# Altium footprint library 10cl010eye144.PcbLib: 3 footprints
Each footprint in its own frame and in the unit in brackets; x right, y up, seen from the top. Pads: shape width x height; smd on the part's side, far side on the other; paste and mask are expansions set on the pad; w line width, h text height; cw(c..) or ccw(c..) is an arc to the next point about the centre after c.
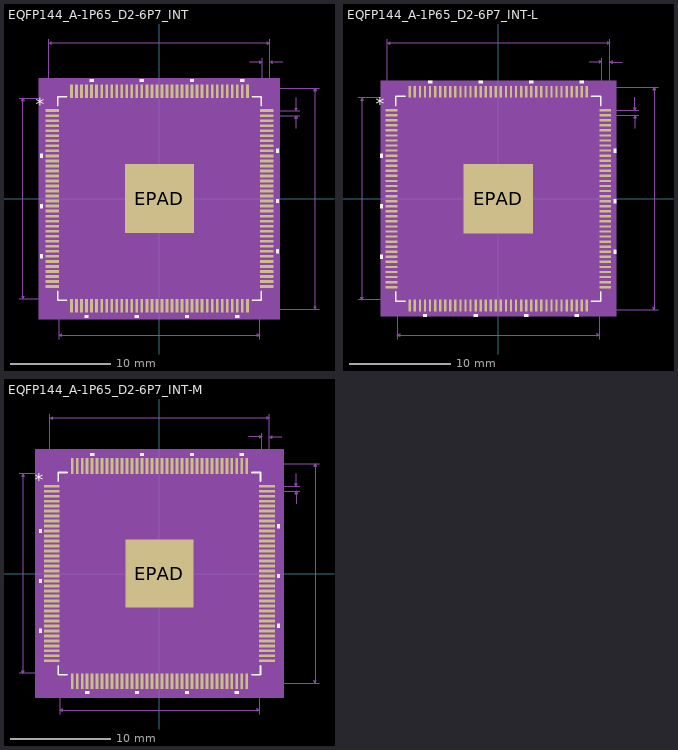
[diagram p0: the footprints below, top view; thin cyan lines are the x and y axes]

## EQFP144_A-1P65_D2-6P7_INT [mil]
pads (145):
  rect 53.5x11 smd paste+0 mask+0: 1(-420.25,344.49) 2(-420.25,324.8) 3(-420.25,305.12) 4(-420.25,285.43) 5(-420.25,265.75) 6(-420.25,246.06) 7(-420.25,226.38) 8(-420.25,206.69) 9(-420.25,187.01) 10(-420.25,167.32) 11(-420.25,147.64) 12(-420.25,127.95) 13(-420.25,108.27) 14(-420.25,88.58) 15(-420.25,68.9) 16(-420.25,49.21) 17(-420.25,29.53) 18(-420.25,9.84) 19(-420.25,-9.84) 20(-420.25,-29.53) 21(-420.25,-49.21) 22(-420.25,-68.9) 23(-420.25,-88.58) 24(-420.25,-108.27) 25(-420.25,-127.95) 26(-420.25,-147.64) 27(-420.25,-167.32) 28(-420.25,-187.01) 29(-420.25,-206.69) 30(-420.25,-226.38) 31(-420.25,-246.06) 32(-420.25,-265.75) 33(-420.25,-285.43) 34(-420.25,-305.12) 35(-420.25,-324.8) 36(-420.25,-344.49) 73(420.25,-344.49) 74(420.25,-324.8) 75(420.25,-305.12) 76(420.25,-285.43) 77(420.25,-265.75) 78(420.25,-246.06) 79(420.25,-226.38) 80(420.25,-206.69) 81(420.25,-187.01) 82(420.25,-167.32) 83(420.25,-147.64) 84(420.25,-127.95) 85(420.25,-108.27) 86(420.25,-88.58) 87(420.25,-68.9) 88(420.25,-49.21) 89(420.25,-29.53) 90(420.25,-9.84) 91(420.25,9.84) 92(420.25,29.53) 93(420.25,49.21) 94(420.25,68.9) 95(420.25,88.58) 96(420.25,108.27) 97(420.25,127.95) 98(420.25,147.64) 99(420.25,167.32) 100(420.25,187.01) 101(420.25,206.69) 102(420.25,226.38) 103(420.25,246.06) 104(420.25,265.75) 105(420.25,285.43) 106(420.25,305.12) 107(420.25,324.8) 108(420.25,344.49)
  rect 11x53.5 smd paste+0 mask+0: 37(-344.49,-420.25) 38(-324.8,-420.25) 39(-305.12,-420.25) 40(-285.43,-420.25) 41(-265.75,-420.25) 42(-246.06,-420.25) 43(-226.38,-420.25) 44(-206.69,-420.25) 45(-187.01,-420.25) 46(-167.32,-420.25) 47(-147.64,-420.25) 48(-127.95,-420.25) 49(-108.27,-420.25) 50(-88.58,-420.25) 51(-68.9,-420.25) 52(-49.21,-420.25) 53(-29.53,-420.25) 54(-9.84,-420.25) 55(9.84,-420.25) 56(29.53,-420.25) 57(49.21,-420.25) 58(68.9,-420.25) 59(88.58,-420.25) 60(108.27,-420.25) 61(127.95,-420.25) 62(147.64,-420.25) 63(167.32,-420.25) 64(187.01,-420.25) 65(206.69,-420.25) 66(226.38,-420.25) 67(246.06,-420.25) 68(265.75,-420.25) 69(285.43,-420.25) 70(305.12,-420.25) 71(324.8,-420.25) 72(344.49,-420.25) 109(344.49,420.25) 110(324.8,420.25) 111(305.12,420.25) 112(285.43,420.25) 113(265.75,420.25) 114(246.06,420.25) 115(226.38,420.25) 116(206.69,420.25) 117(187.01,420.25) 118(167.32,420.25) 119(147.64,420.25) 120(127.95,420.25) 121(108.27,420.25) 122(88.58,420.25) 123(68.9,420.25) 124(49.21,420.25) 125(29.53,420.25) 126(9.84,420.25) 127(-9.84,420.25) 128(-29.53,420.25) 129(-49.21,420.25) 130(-68.9,420.25) 131(-88.58,420.25) 132(-108.27,420.25) 133(-127.95,420.25) 134(-147.64,420.25) 135(-167.32,420.25) 136(-187.01,420.25) 137(-206.69,420.25) 138(-226.38,420.25) 139(-246.06,420.25) 140(-265.75,420.25) 141(-285.43,420.25) 142(-305.12,420.25) 143(-324.8,420.25) 144(-344.49,420.25)
  rect 270x270 smd paste-134.5 mask+0: EPAD(0,0)
Top Overlay:
  region: -258.25,457 -273.25,457 -273.25,467 -258.25,467
  region: -61.4,457 -76.4,457 -76.4,467 -61.4,467
  region: 135.45,457 120.45,457 120.45,467 135.45,467
  region: 332.3,457 317.3,457 317.3,467 332.3,467
  region: 457,194.51 467,194.51 467,179.51 457,179.51
  region: 457,-2.34 467,-2.34 467,-17.34 457,-17.34
  region: 457,-199.19 467,-199.19 467,-214.19 457,-214.19
  region: 312.62,-457 297.62,-457 297.62,-467 312.62,-467
  region: 115.77,-457 100.77,-457 100.77,-467 115.77,-467
  region: -81.08,-457 -96.08,-457 -96.08,-467 -81.08,-467
  region: -277.93,-457 -292.93,-457 -292.93,-467 -277.93,-467
  region: -457,-218.88 -467,-218.88 -467,-233.88 -457,-233.88
  region: -457,-22.03 -467,-22.03 -467,-37.03 -457,-37.03
  region: -457,174.82 -467,174.82 -467,159.82 -457,159.82
  lines w6: -398.5,-363.09 -398.5,-398.5 -363.09,-398.5 ; -398.5,363.09 -398.5,398.5 -363.09,398.5 ; 363.09,-398.5 398.5,-398.5 398.5,-363.09 ; 363.09,398.5 398.5,398.5 398.5,363.09
  text "*" at -484.5,344.33 h50
Top Paste:
  region: 131.06,-84.94 84.94,-84.94 84.94,-131.06 131.06,-131.06
  region: 131.06,-30.94 84.94,-30.94 84.94,-77.06 131.06,-77.06
  region: 131.06,23.06 84.94,23.06 84.94,-23.06 131.06,-23.06
  region: 131.06,77.06 84.94,77.06 84.94,30.94 131.06,30.94
  region: 131.06,131.06 84.94,131.06 84.94,84.94 131.06,84.94
  region: 77.06,-84.94 30.94,-84.94 30.94,-131.06 77.06,-131.06
  region: 77.06,-30.94 30.94,-30.94 30.94,-77.06 77.06,-77.06
  region: 77.06,23.06 30.94,23.06 30.94,-23.06 77.06,-23.06
  region: 77.06,77.06 30.94,77.06 30.94,30.94 77.06,30.94
  region: 77.06,131.06 30.94,131.06 30.94,84.94 77.06,84.94
  region: 23.06,-84.94 -23.06,-84.94 -23.06,-131.06 23.06,-131.06
  region: 23.06,-30.94 -23.06,-30.94 -23.06,-77.06 23.06,-77.06
  region: 23.06,23.06 -23.06,23.06 -23.06,-23.06 23.06,-23.06
  region: 23.06,77.06 -23.06,77.06 -23.06,30.94 23.06,30.94
  region: 23.06,131.06 -23.06,131.06 -23.06,84.94 23.06,84.94
  region: -30.94,-84.94 -77.06,-84.94 -77.06,-131.06 -30.94,-131.06
  region: -30.94,-30.94 -77.06,-30.94 -77.06,-77.06 -30.94,-77.06
  region: -30.94,23.06 -77.06,23.06 -77.06,-23.06 -30.94,-23.06
  region: -30.94,77.06 -77.06,77.06 -77.06,30.94 -30.94,30.94
  region: -30.94,131.06 -77.06,131.06 -77.06,84.94 -30.94,84.94
  region: -84.94,-84.94 -131.06,-84.94 -131.06,-131.06 -84.94,-131.06
  region: -84.94,-30.94 -131.06,-30.94 -131.06,-77.06 -84.94,-77.06
  region: -84.94,23.06 -131.06,23.06 -131.06,-23.06 -84.94,-23.06
  region: -84.94,77.06 -131.06,77.06 -131.06,30.94 -84.94,30.94
  region: -84.94,131.06 -131.06,131.06 -131.06,84.94 -84.94,84.94
Mechanical 5:
  region: 472,-472 -472,-472 -472,472 472,472
Mechanical 7:
  lines w1: -550.25,-393.5 -344.49,-393.5 ; -550.25,393.5 -344.49,393.5 ; -433,344.49 -433,625.25 ; -393.5,-550.25 -393.5,-344.49 ; 344.49,-433 625.25,-433 ; 344.49,433 625.25,433 ; 353,535.25 403,535.25 ; 393.5,-550.25 393.5,-344.49 ; 403,344.49 403,550.25 ; 420.25,324.8 550.25,324.8 ; 420.25,344.49 550.25,344.49 ; 433,550.25 433,344.49 433,625.25 ; 483,535.25 433,535.25 ; 535.25,274.8 535.25,324.8 ; 535.25,394.49 535.25,344.49 ; -535.25,-393.5 -530.25,-383.5 -540.25,-383.5 -535.25,-393.5 ; -535.25,-393.5 -535.25,393.5 ; -535.25,393.5 -530.25,383.5 -540.25,383.5 -535.25,393.5 ; -433,610.25 -423,605.25 -423,615.25 -433,610.25 ; -433,610.25 433,610.25 ; -393.5,-535.25 -383.5,-540.25 -383.5,-530.25 -393.5,-535.25 ; -393.5,-535.25 393.5,-535.25 ; 393.5,-535.25 383.5,-540.25 383.5,-530.25 393.5,-535.25 ; 403,535.25 393,530.25 393,540.25 403,535.25 ; 433,535.25 443,530.25 443,540.25 433,535.25 ; 433,610.25 423,605.25 423,615.25 433,610.25 ; 535.25,324.8 540.25,314.8 530.25,314.8 535.25,324.8 ; 535.25,344.49 540.25,354.49 530.25,354.49 535.25,344.49 ; 610.25,-433 615.25,-423 605.25,-423 610.25,-433 ; 610.25,-433 610.25,433 ; 610.25,433 615.25,423 605.25,423 610.25,433
  text "0.866in/21.996mm" at 630.25,-12.5 h25
  text "0.787in/19.99mm" at -742.75,-12.5 h25
  text "0.787in/19.99mm" at -93.75,-580.25 h25
  text "0.866in/21.996mm" at -100,630.25 h25
  text "0.03in/0.762mm" at 330.5,555.25 h25
  text "0.02in/0.5mm" at 555.25,322.15 h25
  text "Alt 2 Padstyle: OX90Y60D30P" at -337.5,-985.25 h50
  text "Alt 1 Padstyle: OX60Y90D30P" at -337.5,-925.25 h50
  text "Heat Tab Padstyle: RX270Y270D0T" at -387.5,-805.25 h50
  text "Default Vert Padstyle: RX11Y53p5D0T" at -437.5,-745.25 h50
  text "Default Horiz Padstyle: RX11Y53p5D0T" at -450,-685.25 h50
Mechanical 13:
  drawing of 581 lines, arcs and shapes, not listed
  text "*" at -391,329.33 h50
Mechanical 15:
  region: -359.99,-403.5 -403.5,-403.5 -403.5,-359.99 -457,-359.99 -457,359.99 -403.5,359.99 -403.5,403.5 -359.99,403.5 -359.99,457 359.99,457 359.99,403.5 403.5,403.5 403.5,359.99 457,359.99 457,-359.99 403.5,-359.99 403.5,-403.5 359.99,-403.5 359.99,-457 -359.99,-457
  lines w6: -457,-359.99 -457,359.99 -403.5,359.99 -403.5,403.5 -359.99,403.5 -359.99,457 359.99,457 359.99,403.5 403.5,403.5 403.5,359.99 457,359.99 457,-359.99 403.5,-359.99 403.5,-403.5 359.99,-403.5 359.99,-457 -359.99,-457 -359.99,-403.5 -403.5,-403.5 -403.5,-359.99 -457,-359.99
3D body: height 10, standoff 0, extent 0,0 10,10

## EQFP144_A-1P65_D2-6P7_INT-L [mil]
pads (145):
  rect 45.5x9 smd paste+0 mask+0: 1(-416.25,344.49) 2(-416.25,324.8) 3(-416.25,305.12) 4(-416.25,285.43) 5(-416.25,265.75) 6(-416.25,246.06) 7(-416.25,226.38) 8(-416.25,206.69) 9(-416.25,187.01) 10(-416.25,167.32) 11(-416.25,147.64) 12(-416.25,127.95) 13(-416.25,108.27) 14(-416.25,88.58) 15(-416.25,68.9) 16(-416.25,49.21) 17(-416.25,29.53) 18(-416.25,9.84) 19(-416.25,-9.84) 20(-416.25,-29.53) 21(-416.25,-49.21) 22(-416.25,-68.9) 23(-416.25,-88.58) 24(-416.25,-108.27) 25(-416.25,-127.95) 26(-416.25,-147.64) 27(-416.25,-167.32) 28(-416.25,-187.01) 29(-416.25,-206.69) 30(-416.25,-226.38) 31(-416.25,-246.06) 32(-416.25,-265.75) 33(-416.25,-285.43) 34(-416.25,-305.12) 35(-416.25,-324.8) 36(-416.25,-344.49) 73(416.25,-344.49) 74(416.25,-324.8) 75(416.25,-305.12) 76(416.25,-285.43) 77(416.25,-265.75) 78(416.25,-246.06) 79(416.25,-226.38) 80(416.25,-206.69) 81(416.25,-187.01) 82(416.25,-167.32) 83(416.25,-147.64) 84(416.25,-127.95) 85(416.25,-108.27) 86(416.25,-88.58) 87(416.25,-68.9) 88(416.25,-49.21) 89(416.25,-29.53) 90(416.25,-9.84) 91(416.25,9.84) 92(416.25,29.53) 93(416.25,49.21) 94(416.25,68.9) 95(416.25,88.58) 96(416.25,108.27) 97(416.25,127.95) 98(416.25,147.64) 99(416.25,167.32) 100(416.25,187.01) 101(416.25,206.69) 102(416.25,226.38) 103(416.25,246.06) 104(416.25,265.75) 105(416.25,285.43) 106(416.25,305.12) 107(416.25,324.8) 108(416.25,344.49)
  rect 9x45.5 smd paste+0 mask+0: 37(-344.49,-416.25) 38(-324.8,-416.25) 39(-305.12,-416.25) 40(-285.43,-416.25) 41(-265.75,-416.25) 42(-246.06,-416.25) 43(-226.38,-416.25) 44(-206.69,-416.25) 45(-187.01,-416.25) 46(-167.32,-416.25) 47(-147.64,-416.25) 48(-127.95,-416.25) 49(-108.27,-416.25) 50(-88.58,-416.25) 51(-68.9,-416.25) 52(-49.21,-416.25) 53(-29.53,-416.25) 54(-9.84,-416.25) 55(9.84,-416.25) 56(29.53,-416.25) 57(49.21,-416.25) 58(68.9,-416.25) 59(88.58,-416.25) 60(108.27,-416.25) 61(127.95,-416.25) 62(147.64,-416.25) 63(167.32,-416.25) 64(187.01,-416.25) 65(206.69,-416.25) 66(226.38,-416.25) 67(246.06,-416.25) 68(265.75,-416.25) 69(285.43,-416.25) 70(305.12,-416.25) 71(324.8,-416.25) 72(344.49,-416.25) 109(344.49,416.25) 110(324.8,416.25) 111(305.12,416.25) 112(285.43,416.25) 113(265.75,416.25) 114(246.06,416.25) 115(226.38,416.25) 116(206.69,416.25) 117(187.01,416.25) 118(167.32,416.25) 119(147.64,416.25) 120(127.95,416.25) 121(108.27,416.25) 122(88.58,416.25) 123(68.9,416.25) 124(49.21,416.25) 125(29.53,416.25) 126(9.84,416.25) 127(-9.84,416.25) 128(-29.53,416.25) 129(-49.21,416.25) 130(-68.9,416.25) 131(-88.58,416.25) 132(-108.27,416.25) 133(-127.95,416.25) 134(-147.64,416.25) 135(-167.32,416.25) 136(-187.01,416.25) 137(-206.69,416.25) 138(-226.38,416.25) 139(-246.06,416.25) 140(-265.75,416.25) 141(-285.43,416.25) 142(-305.12,416.25) 143(-324.8,416.25) 144(-344.49,416.25)
  rect 270x270 smd paste-134.5 mask+0: EPAD(0,0)
Top Overlay:
  region: -449,174.82 -459,174.82 -459,159.82 -449,159.82
  region: -449,-22.03 -459,-22.03 -459,-37.03 -449,-37.03
  region: -449,-218.88 -459,-218.88 -459,-233.88 -449,-233.88
  region: -277.93,-449 -292.93,-449 -292.93,-459 -277.93,-459
  region: -81.08,-449 -96.08,-449 -96.08,-459 -81.08,-459
  region: 115.77,-449 100.77,-449 100.77,-459 115.77,-459
  region: 312.62,-449 297.62,-449 297.62,-459 312.62,-459
  region: 449,-199.19 459,-199.19 459,-214.19 449,-214.19
  region: 449,-2.34 459,-2.34 459,-17.34 449,-17.34
  region: 449,194.51 459,194.51 459,179.51 449,179.51
  region: 332.3,449 317.3,449 317.3,459 332.3,459
  region: 135.45,449 120.45,449 120.45,459 135.45,459
  region: -61.4,449 -76.4,449 -76.4,459 -61.4,459
  region: -258.25,449 -273.25,449 -273.25,459 -258.25,459
  lines w6: -398.5,-362.09 -398.5,-398.5 -362.09,-398.5 ; -398.5,362.09 -398.5,398.5 -362.09,398.5 ; 362.09,-398.5 398.5,-398.5 398.5,-362.09 ; 362.09,398.5 398.5,398.5 398.5,362.09
  text "*" at -476.5,344.33 h50
Top Paste:
  region: -84.94,131.06 -131.06,131.06 -131.06,84.94 -84.94,84.94
  region: -84.94,77.06 -131.06,77.06 -131.06,30.94 -84.94,30.94
  region: -84.94,23.06 -131.06,23.06 -131.06,-23.06 -84.94,-23.06
  region: -84.94,-30.94 -131.06,-30.94 -131.06,-77.06 -84.94,-77.06
  region: -84.94,-84.94 -131.06,-84.94 -131.06,-131.06 -84.94,-131.06
  region: -30.94,131.06 -77.06,131.06 -77.06,84.94 -30.94,84.94
  region: -30.94,77.06 -77.06,77.06 -77.06,30.94 -30.94,30.94
  region: -30.94,23.06 -77.06,23.06 -77.06,-23.06 -30.94,-23.06
  region: -30.94,-30.94 -77.06,-30.94 -77.06,-77.06 -30.94,-77.06
  region: -30.94,-84.94 -77.06,-84.94 -77.06,-131.06 -30.94,-131.06
  region: 23.06,131.06 -23.06,131.06 -23.06,84.94 23.06,84.94
  region: 23.06,77.06 -23.06,77.06 -23.06,30.94 23.06,30.94
  region: 23.06,23.06 -23.06,23.06 -23.06,-23.06 23.06,-23.06
  region: 23.06,-30.94 -23.06,-30.94 -23.06,-77.06 23.06,-77.06
  region: 23.06,-84.94 -23.06,-84.94 -23.06,-131.06 23.06,-131.06
  region: 77.06,131.06 30.94,131.06 30.94,84.94 77.06,84.94
  region: 77.06,77.06 30.94,77.06 30.94,30.94 77.06,30.94
  region: 77.06,23.06 30.94,23.06 30.94,-23.06 77.06,-23.06
  region: 77.06,-30.94 30.94,-30.94 30.94,-77.06 77.06,-77.06
  region: 77.06,-84.94 30.94,-84.94 30.94,-131.06 77.06,-131.06
  region: 131.06,131.06 84.94,131.06 84.94,84.94 131.06,84.94
  region: 131.06,77.06 84.94,77.06 84.94,30.94 131.06,30.94
  region: 131.06,23.06 84.94,23.06 84.94,-23.06 131.06,-23.06
  region: 131.06,-30.94 84.94,-30.94 84.94,-77.06 131.06,-77.06
  region: 131.06,-84.94 84.94,-84.94 84.94,-131.06 131.06,-131.06
Mechanical 5:
  region: 458,-458 -458,-458 -458,458 458,458
Mechanical 7:
  lines w1: -546.25,-393.5 -344.49,-393.5 ; -546.25,393.5 -344.49,393.5 ; -433,344.49 -433,621.25 ; -393.5,-546.25 -393.5,-344.49 ; 344.49,-433 621.25,-433 ; 344.49,433 621.25,433 ; 353,531.25 403,531.25 ; 393.5,-546.25 393.5,-344.49 ; 403,344.49 403,546.25 ; 416.25,324.8 546.25,324.8 ; 416.25,344.49 546.25,344.49 ; 433,546.25 433,344.49 433,621.25 ; 483,531.25 433,531.25 ; 531.25,274.8 531.25,324.8 ; 531.25,394.49 531.25,344.49 ; -531.25,-393.5 -531.25,393.5 ; -531.25,-393.5 -536.25,-383.5 -526.25,-383.5 -531.25,-393.5 ; -531.25,393.5 -536.25,383.5 -526.25,383.5 -531.25,393.5 ; -433,606.25 433,606.25 ; -433,606.25 -423,611.25 -423,601.25 -433,606.25 ; -393.5,-531.25 393.5,-531.25 ; -393.5,-531.25 -383.5,-526.25 -383.5,-536.25 -393.5,-531.25 ; 393.5,-531.25 383.5,-526.25 383.5,-536.25 393.5,-531.25 ; 403,531.25 393,536.25 393,526.25 403,531.25 ; 433,531.25 443,536.25 443,526.25 433,531.25 ; 433,606.25 423,611.25 423,601.25 433,606.25 ; 531.25,324.8 526.25,314.8 536.25,314.8 531.25,324.8 ; 531.25,344.49 526.25,354.49 536.25,354.49 531.25,344.49 ; 606.25,-433 606.25,433 ; 606.25,-433 601.25,-423 611.25,-423 606.25,-433 ; 606.25,433 601.25,423 611.25,423 606.25,433
  text "Default Horiz Padstyle: RX9Y45p5D0T" at -437.5,-681.25 h50
  text "Default Vert Padstyle: RX9Y45p5D0T" at -425,-741.25 h50
  text "Heat Tab Padstyle: RX270Y270D0T" at -387.5,-801.25 h50
  text "Alt 1 Padstyle: OX60Y90D30P" at -337.5,-921.25 h50
  text "Alt 2 Padstyle: OX90Y60D30P" at -337.5,-981.25 h50
  text "0.02in/0.5mm" at 551.25,322.15 h25
  text "0.03in/0.762mm" at 330.5,551.25 h25
  text "0.866in/21.996mm" at -100,626.25 h25
  text "0.787in/19.99mm" at -93.75,-576.25 h25
  text "0.787in/19.99mm" at -738.75,-12.5 h25
  text "0.866in/21.996mm" at 626.25,-12.5 h25
Mechanical 13:
  drawing of 585 lines, arcs and shapes, not listed
  text "*" at -391,329.33 h50
Mechanical 15:
  region: -352.99,-397.5 -397.5,-397.5 -397.5,-352.99 -443,-352.99 -443,352.99 -397.5,352.99 -397.5,397.5 -352.99,397.5 -352.99,443 352.99,443 352.99,397.5 397.5,397.5 397.5,352.99 443,352.99 443,-352.99 397.5,-352.99 397.5,-397.5 352.99,-397.5 352.99,-443 -352.99,-443
  lines w6: -443,-352.99 -397.5,-352.99 -397.5,-397.5 -352.99,-397.5 -352.99,-443 352.99,-443 352.99,-397.5 397.5,-397.5 397.5,-352.99 443,-352.99 443,352.99 397.5,352.99 397.5,397.5 352.99,397.5 352.99,443 -352.99,443 -352.99,397.5 -397.5,397.5 -397.5,352.99 -443,352.99 -443,-352.99
3D body: height 10, standoff 0, extent 0,0 10,10

## EQFP144_A-1P65_D2-6P7_INT-M [mil]
pads (145):
  rect 61.5x11 smd paste+0 mask+0: 1(-424.25,344.49) 2(-424.25,324.8) 3(-424.25,305.12) 4(-424.25,285.43) 5(-424.25,265.75) 6(-424.25,246.06) 7(-424.25,226.38) 8(-424.25,206.69) 9(-424.25,187.01) 10(-424.25,167.32) 11(-424.25,147.64) 12(-424.25,127.95) 13(-424.25,108.27) 14(-424.25,88.58) 15(-424.25,68.9) 16(-424.25,49.21) 17(-424.25,29.53) 18(-424.25,9.84) 19(-424.25,-9.84) 20(-424.25,-29.53) 21(-424.25,-49.21) 22(-424.25,-68.9) 23(-424.25,-88.58) 24(-424.25,-108.27) 25(-424.25,-127.95) 26(-424.25,-147.64) 27(-424.25,-167.32) 28(-424.25,-187.01) 29(-424.25,-206.69) 30(-424.25,-226.38) 31(-424.25,-246.06) 32(-424.25,-265.75) 33(-424.25,-285.43) 34(-424.25,-305.12) 35(-424.25,-324.8) 36(-424.25,-344.49) 73(424.25,-344.49) 74(424.25,-324.8) 75(424.25,-305.12) 76(424.25,-285.43) 77(424.25,-265.75) 78(424.25,-246.06) 79(424.25,-226.38) 80(424.25,-206.69) 81(424.25,-187.01) 82(424.25,-167.32) 83(424.25,-147.64) 84(424.25,-127.95) 85(424.25,-108.27) 86(424.25,-88.58) 87(424.25,-68.9) 88(424.25,-49.21) 89(424.25,-29.53) 90(424.25,-9.84) 91(424.25,9.84) 92(424.25,29.53) 93(424.25,49.21) 94(424.25,68.9) 95(424.25,88.58) 96(424.25,108.27) 97(424.25,127.95) 98(424.25,147.64) 99(424.25,167.32) 100(424.25,187.01) 101(424.25,206.69) 102(424.25,226.38) 103(424.25,246.06) 104(424.25,265.75) 105(424.25,285.43) 106(424.25,305.12) 107(424.25,324.8) 108(424.25,344.49)
  rect 11x61.5 smd paste+0 mask+0: 37(-344.49,-424.25) 38(-324.8,-424.25) 39(-305.12,-424.25) 40(-285.43,-424.25) 41(-265.75,-424.25) 42(-246.06,-424.25) 43(-226.38,-424.25) 44(-206.69,-424.25) 45(-187.01,-424.25) 46(-167.32,-424.25) 47(-147.64,-424.25) 48(-127.95,-424.25) 49(-108.27,-424.25) 50(-88.58,-424.25) 51(-68.9,-424.25) 52(-49.21,-424.25) 53(-29.53,-424.25) 54(-9.84,-424.25) 55(9.84,-424.25) 56(29.53,-424.25) 57(49.21,-424.25) 58(68.9,-424.25) 59(88.58,-424.25) 60(108.27,-424.25) 61(127.95,-424.25) 62(147.64,-424.25) 63(167.32,-424.25) 64(187.01,-424.25) 65(206.69,-424.25) 66(226.38,-424.25) 67(246.06,-424.25) 68(265.75,-424.25) 69(285.43,-424.25) 70(305.12,-424.25) 71(324.8,-424.25) 72(344.49,-424.25) 109(344.49,424.25) 110(324.8,424.25) 111(305.12,424.25) 112(285.43,424.25) 113(265.75,424.25) 114(246.06,424.25) 115(226.38,424.25) 116(206.69,424.25) 117(187.01,424.25) 118(167.32,424.25) 119(147.64,424.25) 120(127.95,424.25) 121(108.27,424.25) 122(88.58,424.25) 123(68.9,424.25) 124(49.21,424.25) 125(29.53,424.25) 126(9.84,424.25) 127(-9.84,424.25) 128(-29.53,424.25) 129(-49.21,424.25) 130(-68.9,424.25) 131(-88.58,424.25) 132(-108.27,424.25) 133(-127.95,424.25) 134(-147.64,424.25) 135(-167.32,424.25) 136(-187.01,424.25) 137(-206.69,424.25) 138(-226.38,424.25) 139(-246.06,424.25) 140(-265.75,424.25) 141(-285.43,424.25) 142(-305.12,424.25) 143(-324.8,424.25) 144(-344.49,424.25)
  rect 270x270 smd paste-134.5 mask+0: EPAD(0,0)
Top Overlay:
  region: -465,174.82 -475,174.82 -475,159.82 -465,159.82
  region: -465,-22.03 -475,-22.03 -475,-37.03 -465,-37.03
  region: -465,-218.88 -475,-218.88 -475,-233.88 -465,-233.88
  region: -277.93,-465 -292.93,-465 -292.93,-475 -277.93,-475
  region: -81.08,-465 -96.08,-465 -96.08,-475 -81.08,-475
  region: 115.77,-465 100.77,-465 100.77,-475 115.77,-475
  region: 312.62,-465 297.62,-465 297.62,-475 312.62,-475
  region: 465,-199.19 475,-199.19 475,-214.19 465,-214.19
  region: 465,-2.34 475,-2.34 475,-17.34 465,-17.34
  region: 465,194.51 475,194.51 475,179.51 465,179.51
  region: 332.3,465 317.3,465 317.3,475 332.3,475
  region: 135.45,465 120.45,465 120.45,475 135.45,475
  region: -61.4,465 -76.4,465 -76.4,475 -61.4,475
  region: -258.25,465 -273.25,465 -273.25,475 -258.25,475
  lines w6: -398.5,-363.09 -398.5,-398.5 -363.09,-398.5 ; -398.5,363.09 -398.5,398.5 -363.09,398.5 ; 363.09,-398.5 398.5,-398.5 398.5,-363.09 ; 363.09,398.5 398.5,398.5 398.5,363.09
  text "*" at -492.5,344.33 h50
Top Paste:
  region: -84.94,131.06 -131.06,131.06 -131.06,84.94 -84.94,84.94
  region: -84.94,77.06 -131.06,77.06 -131.06,30.94 -84.94,30.94
  region: -84.94,23.06 -131.06,23.06 -131.06,-23.06 -84.94,-23.06
  region: -84.94,-30.94 -131.06,-30.94 -131.06,-77.06 -84.94,-77.06
  region: -84.94,-84.94 -131.06,-84.94 -131.06,-131.06 -84.94,-131.06
  region: -30.94,131.06 -77.06,131.06 -77.06,84.94 -30.94,84.94
  region: -30.94,77.06 -77.06,77.06 -77.06,30.94 -30.94,30.94
  region: -30.94,23.06 -77.06,23.06 -77.06,-23.06 -30.94,-23.06
  region: -30.94,-30.94 -77.06,-30.94 -77.06,-77.06 -30.94,-77.06
  region: -30.94,-84.94 -77.06,-84.94 -77.06,-131.06 -30.94,-131.06
  region: 23.06,131.06 -23.06,131.06 -23.06,84.94 23.06,84.94
  region: 23.06,77.06 -23.06,77.06 -23.06,30.94 23.06,30.94
  region: 23.06,23.06 -23.06,23.06 -23.06,-23.06 23.06,-23.06
  region: 23.06,-30.94 -23.06,-30.94 -23.06,-77.06 23.06,-77.06
  region: 23.06,-84.94 -23.06,-84.94 -23.06,-131.06 23.06,-131.06
  region: 77.06,131.06 30.94,131.06 30.94,84.94 77.06,84.94
  region: 77.06,77.06 30.94,77.06 30.94,30.94 77.06,30.94
  region: 77.06,23.06 30.94,23.06 30.94,-23.06 77.06,-23.06
  region: 77.06,-30.94 30.94,-30.94 30.94,-77.06 77.06,-77.06
  region: 77.06,-84.94 30.94,-84.94 30.94,-131.06 77.06,-131.06
  region: 131.06,131.06 84.94,131.06 84.94,84.94 131.06,84.94
  region: 131.06,77.06 84.94,77.06 84.94,30.94 131.06,30.94
  region: 131.06,23.06 84.94,23.06 84.94,-23.06 131.06,-23.06
  region: 131.06,-30.94 84.94,-30.94 84.94,-77.06 131.06,-77.06
  region: 131.06,-84.94 84.94,-84.94 84.94,-131.06 131.06,-131.06
Mechanical 5:
  region: 490,-490 -490,-490 -490,490 490,490
Mechanical 7:
  lines w1: -554.25,-393.5 -344.49,-393.5 ; -554.25,393.5 -344.49,393.5 ; -433,344.49 -433,629.25 ; -393.5,-554.25 -393.5,-344.49 ; 344.49,-433 629.25,-433 ; 344.49,433 629.25,433 ; 353,539.25 403,539.25 ; 393.5,-554.25 393.5,-344.49 ; 403,344.49 403,554.25 ; 424.25,324.8 554.25,324.8 ; 424.25,344.49 554.25,344.49 ; 433,554.25 433,344.49 433,629.25 ; 483,539.25 433,539.25 ; 539.25,274.8 539.25,324.8 ; 539.25,394.49 539.25,344.49 ; -539.25,-393.5 -539.25,393.5 ; -539.25,-393.5 -544.25,-383.5 -534.25,-383.5 -539.25,-393.5 ; -539.25,393.5 -544.25,383.5 -534.25,383.5 -539.25,393.5 ; -433,614.25 433,614.25 ; -433,614.25 -423,619.25 -423,609.25 -433,614.25 ; -393.5,-539.25 393.5,-539.25 ; -393.5,-539.25 -383.5,-534.25 -383.5,-544.25 -393.5,-539.25 ; 393.5,-539.25 383.5,-534.25 383.5,-544.25 393.5,-539.25 ; 403,539.25 393,544.25 393,534.25 403,539.25 ; 433,539.25 443,544.25 443,534.25 433,539.25 ; 433,614.25 423,619.25 423,609.25 433,614.25 ; 539.25,324.8 534.25,314.8 544.25,314.8 539.25,324.8 ; 539.25,344.49 534.25,354.49 544.25,354.49 539.25,344.49 ; 614.25,-433 614.25,433 ; 614.25,-433 609.25,-423 619.25,-423 614.25,-433 ; 614.25,433 609.25,423 619.25,423 614.25,433
  text "Default Horiz Padstyle: RX11Y61p5D0T" at -450,-689.25 h50
  text "Default Vert Padstyle: RX11Y61p5D0T" at -437.5,-749.25 h50
  text "Heat Tab Padstyle: RX270Y270D0T" at -387.5,-809.25 h50
  text "Alt 1 Padstyle: OX60Y90D30P" at -337.5,-929.25 h50
  text "Alt 2 Padstyle: OX90Y60D30P" at -337.5,-989.25 h50
  text "0.02in/0.5mm" at 559.25,322.15 h25
  text "0.03in/0.762mm" at 330.5,559.25 h25
  text "0.866in/21.996mm" at -100,634.25 h25
  text "0.787in/19.99mm" at -93.75,-584.25 h25
  text "0.787in/19.99mm" at -746.75,-12.5 h25
  text "0.866in/21.996mm" at 634.25,-12.5 h25
Mechanical 13:
  drawing of 585 lines, arcs and shapes, not listed
  text "*" at -391,329.33 h50
Mechanical 15:
  region: -369.99,-413.5 -413.5,-413.5 -413.5,-369.99 -475,-369.99 -475,369.99 -413.5,369.99 -413.5,413.5 -369.99,413.5 -369.99,475 369.99,475 369.99,413.5 413.5,413.5 413.5,369.99 475,369.99 475,-369.99 413.5,-369.99 413.5,-413.5 369.99,-413.5 369.99,-475 -369.99,-475
  lines w6: -475,-369.99 -413.5,-369.99 -413.5,-413.5 -369.99,-413.5 -369.99,-475 369.99,-475 369.99,-413.5 413.5,-413.5 413.5,-369.99 475,-369.99 475,369.99 413.5,369.99 413.5,413.5 369.99,413.5 369.99,475 -369.99,475 -369.99,413.5 -413.5,413.5 -413.5,369.99 -475,369.99 -475,-369.99
3D body: height 10, standoff 0, extent 0,0 10,10